# EAGLE library part TPS6734IP (library personal)
Fixed 12V 120mA Boost converter supply
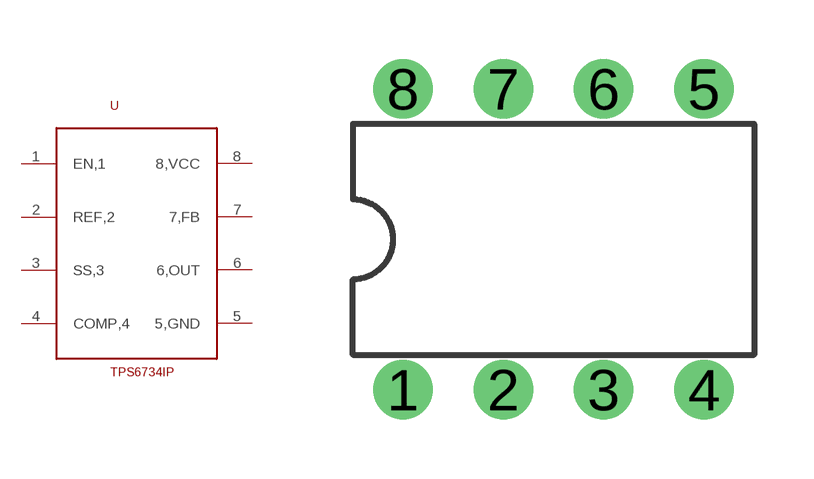
[diagram p0: symbol with the pads of DIL08; footprint DIL08]

Designator prefix -

## TPS6734IP  [DIL08]
1  EN,1
2  REF,2
3  SS,3
4  COMP,4
5  5,GND  pwr
6  6,OUT
7  7,FB
8  8,VCC  pwr

## Footprint DIL08 (pad centres in mm)
Dual In Line Package
drill 1 round: 1 -3.81,-3.81; 2 -1.27,-3.81; 3 1.27,-3.81; 4 3.81,-3.81; 5 3.81,3.81; 6 1.27,3.81; 7 -1.27,3.81; 8 -3.81,3.81